# EAGLE library part SI4948BEY-T1-E3 (library vishay_mosfet)
Vishay dual P-Channel Mosfet SI4948BEY-T1-E3
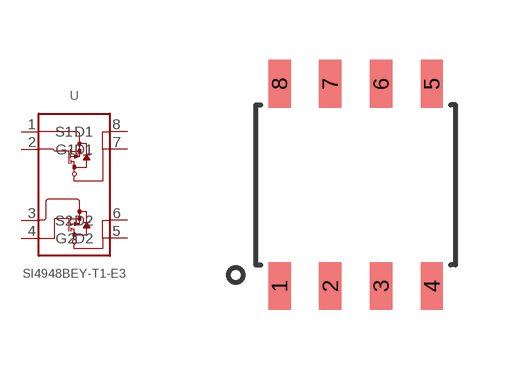
[diagram p0: symbol with the pads of SO-8; footprint SO-8]

Designator prefix -

## SI4948BEY-T1-E3 (MPN: SI4948BEY-T1-E3)  [SO-8]
1  S1
2  G1
3  S2
4  G2
5  D2
6  D2
7  D1
8  D1

## Footprint SO-8 (pad centres in mm)
smd 0.559 x 1.194: 1 -1.905,-2.527; 2 -0.635,-2.527; 3 0.635,-2.527; 4 1.905,-2.527; 5 1.905,2.527; 6 0.635,2.527; 7 -0.635,2.527; 8 -1.905,2.527